# Altium schematic symbol library pth-circ-prot.SchLib: 2 symbols
Pins are listed as number, name and electrical type; pins without a type are passive.

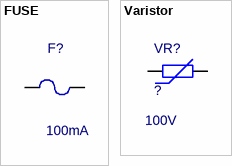
[diagram p0: symbols FUSE to Varistor]

## FUSE
designator F?, comment value 100mA  (hidden comment: 000000)
Discrete Test Probe; PN: 000000; Package: PTH; MF: *; ExtraInfo: *
footprint F8.5X4 (Radial Lead Fuse 8.5x4mm)
pins: 1, 2

## Varistor
designator VR?, comment ?  value 100V
Varistor (Voltage-Sensitive Resistor); PN: ?; MF PN: *; Package: PTH; ExtraInfo: *; MF: *; Price: *; Digi-Key PN: *
footprint MOV10x5-7.5 (MOV RADIAL 10x5mm, 7.5mm Pitch)
footprint MOV7x6.2-5.0 (MOV RADIAL 7x6.2mm, 5.0mm Pitch)
footprint MOV7x4.8-5.0 (MOV RADIAL 7x4.6mm, 5.0mm Pitch)
pins: 1, 2